# Altium schematic symbol library SCH - PASSIVES - EEV-FK2A470V.Schlib: 1 symbol
Pins are listed as number, name and electrical type; pins without a type are passive.

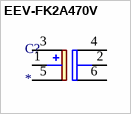
[diagram p0: symbol EEV-FK2A470V]

## EEV-FK2A470V
designator C?
Capacitor Polarised
pins: 1 +_1, 2 -_1, 3 +_2, 4 +_3, 5 -_2, 6 -_3